# EAGLE library part TPS735 (library power)
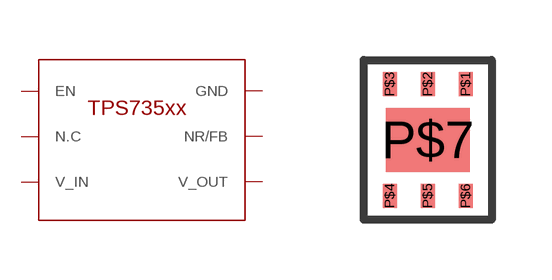
[diagram p7: symbol with the pads of WSON6; footprint WSON6]

Designator prefix U

## TPS735  [WSON6]
P$1  EN
P$2  N.C  nc
P$3  V_IN  pwr
P$4  V_OUT  pwr
P$5  NR/FB
P$6  GND  pwr
P$7  GND  pwr

## Footprint WSON6 (pad centres in mm)
smd 0.35 x 0.6: P$1 0.95,1.4; P$2 0,1.4; P$3 -0.95,1.4; P$4 -0.95,-1.4; P$5 0,-1.4; P$6 0.95,-1.4
smd 2.1 x 1.6: P$7 0,0